# Altium schematic symbol library CS_LIB.SCHLIB: 23 symbols
Pins are listed as number, name and electrical type; pins without a type are passive.

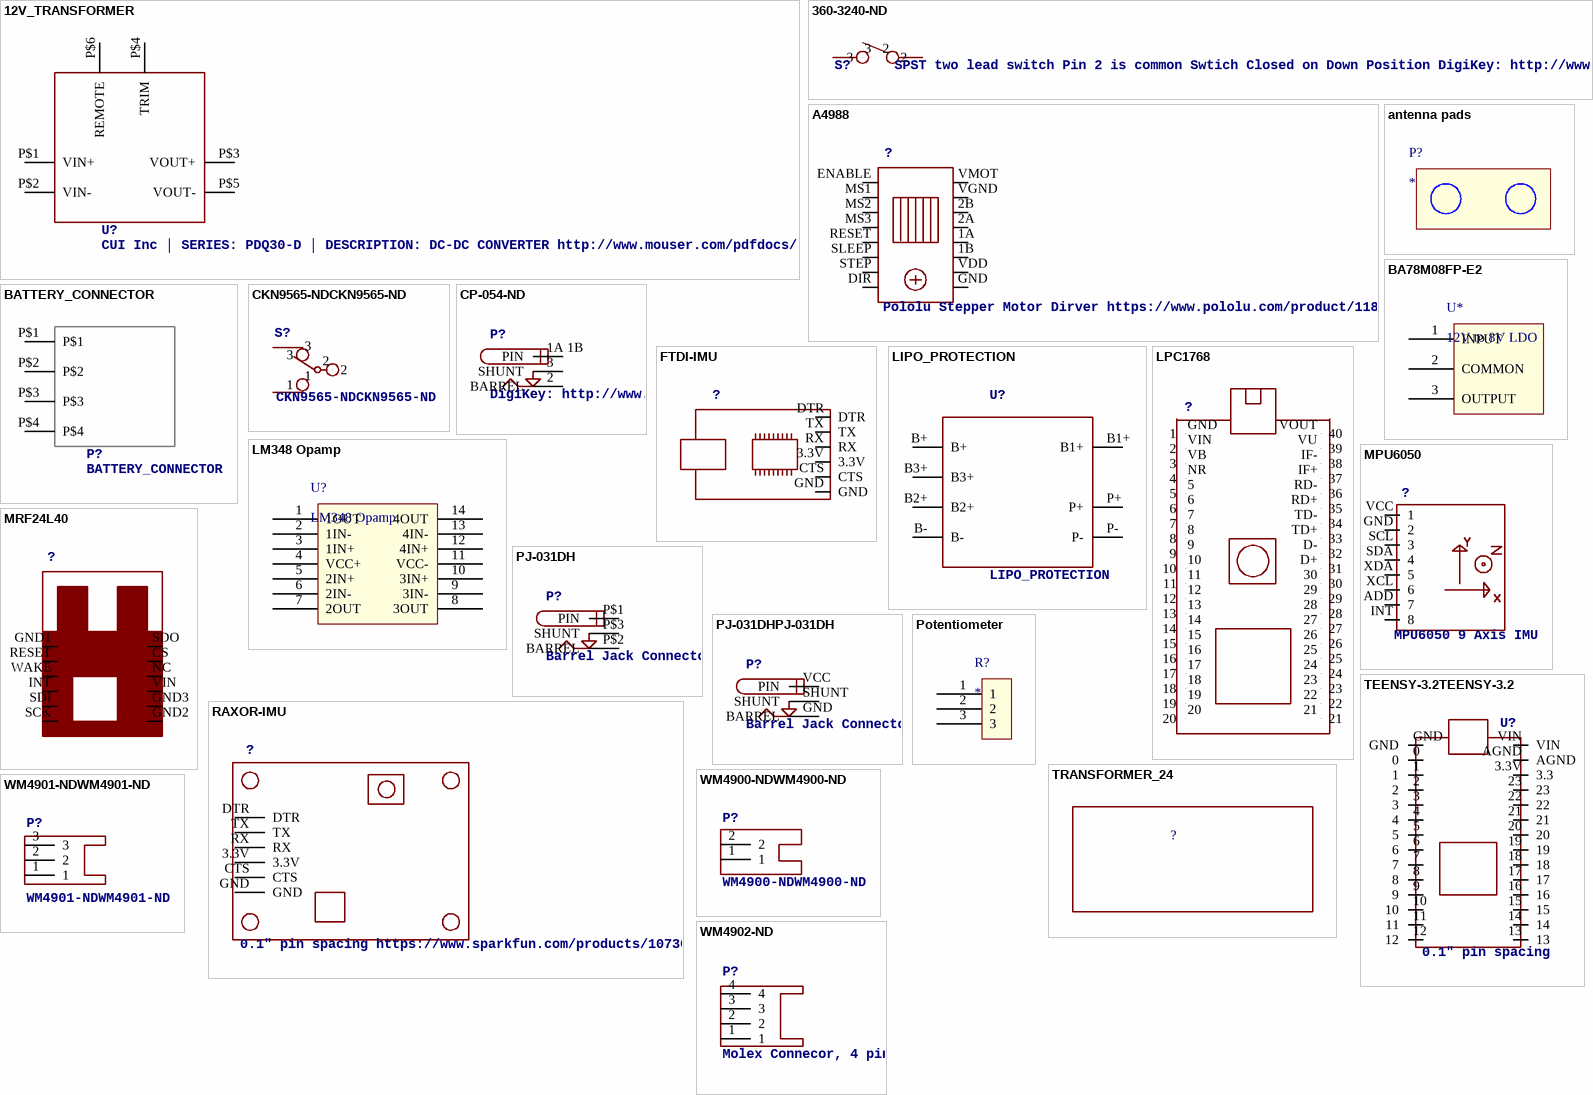
[diagram p0: symbols 12V_TRANSFORMER to WM4902-ND]

## 12V_TRANSFORMER
designator U?, comment CUI Inc │ SERIES: PDQ30-D │ DESCRIPTION: DC-DC CONVERTER http://www.mouser.com/pdfdocs/pdq30-d.pdf
footprint 12V_TRANSFORMER
pins: P$1 VIN+, P$2 VIN-, P$3 VOUT+, P$4 TRIM, P$5 VOUT-, P$6 REMOTE

## 360-3240-ND
designator S?, comment SPST two lead switch Pin 2 is common Swtich Closed on Down Position DigiKey: http://www.digikey.com/product-detail/en/nkk-switches/M2011S2A1W01/360-3240-ND/1049342 Data Sheet: http://2t70un3m1d9z1kztamkdrd38.wpengine.netdna-cdn.com/wp-content/uploads/2016/02/MtogglesBushing.pdf
footprint 360-3240-ND
pins: 2, 3

## A4988
designator ?, comment Pololu Stepper Motor Dirver https://www.pololu.com/product/1182
footprint A4988
pins: 1A 12, 1B 11, 2A 13, 2B 14, DIR 8, ENABLE 1, GND 9, MS1 2, MS2 3, MS3 4, RESET 5, SLEEP 6, STEP 7, VDD 10, VGND 15, VMOT 16

## antenna pads
designator P?
footprint Antenna pads (sma connector standoff)

## BA78M08FP-E2
designator U*, comment 12V to 8V LDO
footprint BA7808CP-E2
pins: 1 INPUT, 2 COMMON, 3 OUTPUT

## BATTERY_CONNECTOR
designator P?
footprint BATTERY_CONNECTOR
pins: P$1, P$2, P$3, P$4

## CKN9565-NDCKN9565-ND
designator S?
footprint CKN9565-ND
pins: 1, 2, 3

## CP-054-ND
designator P?, comment DigiKey: http://www.digikey.com/product-detail/en/cui-inc/PJ-054/CP-054-ND/1644595 Data Sheet: http://www.cui.com/product/resource/pj-054.pdf
footprint CP-054-ND
pins: 1A 1B PIN, 2 BARREL, 3 SHUNT

## FTDI-IMU
designator ?
footprint FTDI-SPARKFUN
pins: 3.3V, CTS, DTR, GND, RX, TX

## LIPO_PROTECTION
designator U?
footprint LIPO_PROTECTION
pins: B1+, B2+, B3+, B+, B-, P+, P-

## LM348 Opamp
designator U?
Quad opamp
pins: 1 1OUT, 2 1IN-, 3 1IN+, 4 VCC+, 5 2IN+, 6 2IN-, 7 2OUT, 8 3OUT, 9 3IN-, 10 3IN+, 11 VCC-, 12 4IN+, 13 4IN-, 14 4OUT

## LPC1768
designator ?
footprint LPC1768
pins: 5, 6, 7, 8, 9, 10, 11, 12, 13, 14, 15, 16, 17, 18, 19, 20, 21, 22, 23, 24, 25, 26, 27, 28, 29, 30, D+ 31, D- 32, GND 1, IF+ 37, IF- 38, NR 4, RD+ 35, RD- 36, TD+ 33, TD- 34, VB 3, VIN 2, VOUT 40, VU 39

## MPU6050
designator ?, comment MPU6050 9 Axis IMU
footprint MPU6050
pins: ADD 7, GND 2, INT 8, SCL 3, SDA 4, VCC 1, XCL 6, XDA 5

## MRF24L40
designator ?
footprint MRF24J40
pins: CS P$11, GND1 P$1, GND2 P$7, GND3 P$8, INT P$4, NC P$10, RESET P$2, SCK P$6, SDI P$5, SDO P$12, VIN P$9, WAKE P$3

## PJ-031DH
designator P?, comment Barrel Jack Connector  5mm long, 2.7mm wide, spacing DigiKey: http://www.digikey.com/product-detail/en/cui-inc/PJ-031DH/CP-031DH-ND/1644524 Data Sheet: http://www.cui.com/catalog/resource/connector-mating-guide.pdf
footprint PJ-036AH
pins: P$1 PIN, P$2 BARREL, P$3 SHUNT

## PJ-031DHPJ-031DH
designator P?, comment Barrel Jack Connector  5mm long, 2.7mm wide, spacing DigiKey: http://www.digikey.com/product-detail/en/cui-inc/PJ-031DH/CP-031DH-ND/1644524 Data Sheet: http://www.cui.com/catalog/resource/connector-mating-guide.pdf
footprint PJ-031DH-DIGIKEY-1.35X3.5
pins: GND BARREL, SHUNT, VCC PIN

## Potentiometer
designator R?
100 ohm
pins: 1, 2, 3

## RAXOR-IMU
designator ?, comment 0.1" pin spacing https://www.sparkfun.com/products/10736
footprint RAZOR-IMU
pins: 3.3V, CTS, DTR, GND, RX, TX

## TEENSY-3.2TEENSY-3.2
designator U?, comment 0.1" pin spacing
footprint TEENSY-3.2
pins: 0, 1, 2, 3, 3.3V 3.3, 4, 5, 6, 7, 8, 9, 10, 11, 12, 13, 14, 15, 16, 17, 18, 19, 20, 21, 22, 23, AGND, GND, VIN

## TRANSFORMER_24
designator ?
footprint 24V_TRANSFORMER

## WM4900-NDWM4900-ND
designator P?
footprint MOLEX-DIGIKEY
pins: 1, 2

## WM4901-NDWM4901-ND
designator P?
footprint WM4901-ND
pins: 1, 2, 3

## WM4902-ND
designator P?, comment Molex Connecor, 4 pin, 0.1" spacing DigiKey link Female socket: http://www.digikey.com/product-search/en?keywords=wm4902 DigiKey link Make: http://www.digikey.com/product-detail/en/molex-llc/0050579404/WM2902-ND/115057 DigiKey Wire Crimps: http://www.digikey.com/scripts/DkSearch/dksus.dll?Detail&itemSeq=205242229&uq=636075548085765566
footprint WM4902-ND
pins: 1, 2, 3, 4